# Altium footprint library 3. WXQv4.PcbLib: 21 footprints (part 2 of 2)
Each footprint in its own frame and in the unit in brackets; x right, y up, seen from the top. Pads: shape width x height; smd on the part's side, far side on the other; paste and mask are expansions set on the pad; w line width, h text height; cw(c..) or ccw(c..) is an arc to the next point about the centre after c.
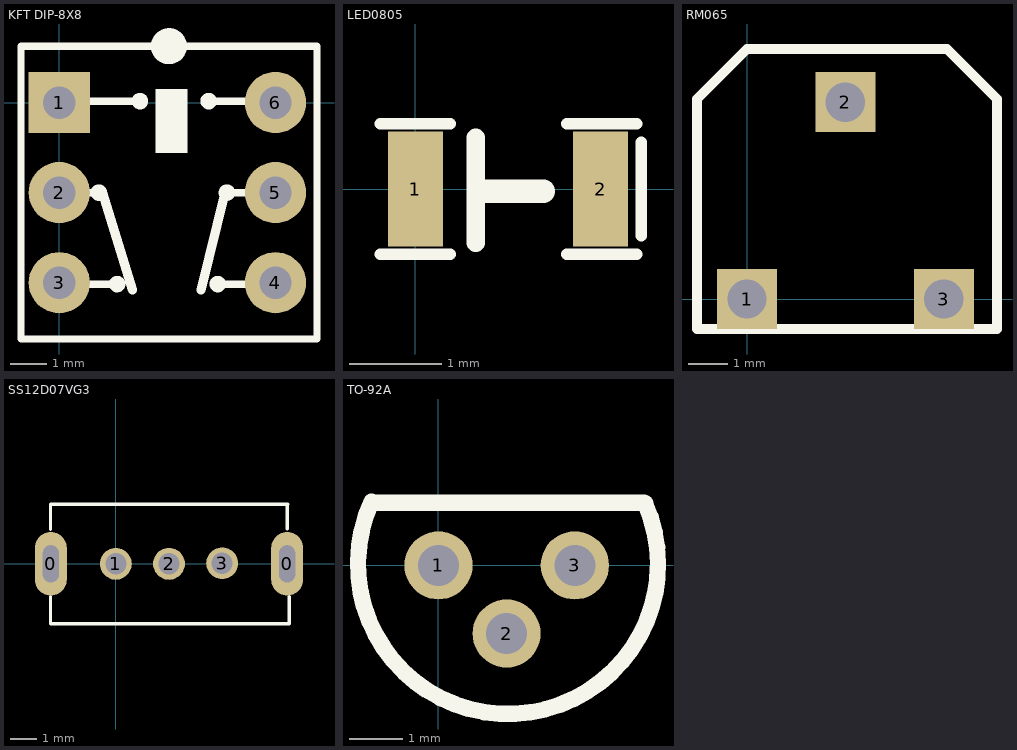
[diagram p1: the footprints below, top view; thin cyan lines are the x and y axes]

## KFT DIP-8X8 [mm]
pads (6):
  rect 1.7x1.7 hole 0.9: 1(0,0)
  round 1.7 hole 0.9: 2(0,-2.5) 3(0,-5) 4(6,-5) 5(6,-2.5) 6(6,0)
Top Overlay:
  circle w0.254: c4.397,-5.04 r0.102
  circle w0.254: c2.238,0.04 r0.102
  circle w0.6: c3.044,1.564 r0.2
  circle w0.254: c1.603,-5.04 r0.102
  circle w0.254: c1.095,-2.5 r0.102
  circle w0.254: c4.651,-2.5 r0.102
  circle w0.254: c4.143,0.04 r0.102
  rectangle: 2.667,-1.397 3.556,0.381
  lines w0.2: -1.064,-6.564 7.153,-6.564 7.153,1.564 -1.064,1.564 -1.064,-6.564
  lines w0.203: -0.048,-5.04 1.603,-5.04 ; -0.048,-2.5 1.229,-2.5 ; -0.048,0.04 2.238,0.04 ; 4.143,0.04 5.794,0.04 ; 4.499,-5.04 5.794,-5.04 ; 4.6,-2.5 5.794,-2.5
  lines w0.254: 1.197,-2.5 2.032,-5.207 ; 3.937,-5.207 4.6,-2.5
3D body "KFT DIP-8X8.STEP": height 13.1, standoff -3.2, extent -1.079,-6.476 6.921,1.524

## LED0805 [mm]
pads (2):
  rect 0.6x1.25 smd: 1(0,0) 2(2.02,0)
Top Overlay:
  lines w0.127: -0.381,-0.711 0.381,-0.711 ; -0.381,0.711 0.381,0.711 ; 1.651,-0.711 2.413,-0.711 ; 1.651,0.711 2.413,0.711 ; 2.464,-0.508 2.464,0.508
  lines w0.203: 0.66,-0.584 0.66,0.559
  lines w0.254: 0.737,-0.025 1.397,-0.025
3D body: height 1.4, standoff -0.05, extent 0.12,-0.686 1.912,0.686

## RM065 [mm]
pads (3):
  rect 1.524x1.524 hole 1: 1(0,0) 2(2.5,5) 3(5,0)
Top Overlay:
  lines w0.254: -1.27,-0.762 6.35,-0.762 6.35,5.08 5.08,6.35 0,6.35 -1.27,5.08 -1.27,-0.762

## SS12D07VG3 [mm]
pads (5):
  oval 1.2x2.4 hole 0.6 slot 1.4 at 90 deg: 0(-2.45,0) 0(6.45,0)
  round 1.2 hole 0.8: 1(0,0) 2(2,0) 3(4,0.025)
Top Overlay:
  lines w0.127: -2.464,-2.261 6.528,-2.261 6.528,-1.245 ; -2.464,-2.25 -2.464,-1.245 ; -2.464,1.295 -2.464,2.25 ; -2.438,2.25 6.477,2.25 ; 6.452,1.321 6.452,2.25
3D body: height 5.5, standoff 0, extent -2.464,-2.286 6.579,2.252

## TO-92A [mil]
pads (3):
  round 50 hole 30: 1(0,0) 2(50,-50) 3(100,0)
Top Overlay:
  lines w12: -49.11,46.59 ccw(c51,1) 151.52,45.68 ; -49,46 151,46